# Altium schematic symbol library SCH - ARM CORTEX - NXP LPC154X LQFP48.SCHLIB: 1 symbol
Pins are listed as number, name and electrical type; pins without a type are passive.

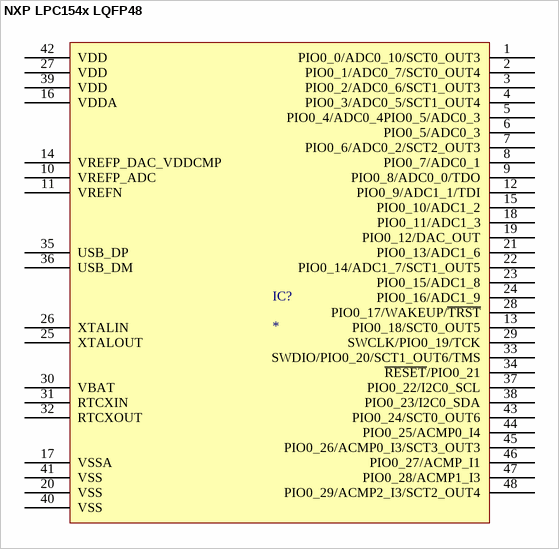
[diagram p0: symbol NXP LPC154x LQFP48]

## NXP LPC154x LQFP48
designator IC?
pins: 1 PIO0_0/ADC0_10/SCT0_OUT3, 2 PIO0_1/ADC0_7/SCT0_OUT4, 3 PIO0_2/ADC0_6/SCT1_OUT3, 4 PIO0_3/ADC0_5/SCT1_OUT4, 5 PIO0_4/ADC0_4PIO0_5/ADC0_3, 6 PIO0_5/ADC0_3, 7 PIO0_6/ADC0_2/SCT2_OUT3, 8 PIO0_7/ADC0_1, 9 PIO0_8/ADC0_0/TDO, 10 VREFP_ADC, 11 VREFN, 12 PIO0_9/ADC1_1/TDI, 13 PIO0_18/SCT0_OUT5, 14 VREFP_DAC_VDDCMP, 15 PIO0_10/ADC1_2, 16 VDDA, 17 VSSA, 18 PIO0_11/ADC1_3, 19 PIO0_12/DAC_OUT, 20 VSS, 21 PIO0_13/ADC1_6, 22 PIO0_14/ADC1_7/SCT1_OUT5, 23 PIO0_15/ADC1_8, 24 PIO0_16/ADC1_9, 25 XTALOUT, 26 XTALIN, 27 VDD, 28 PIO0_17/WAKEUP/~{TRST}, 29 SWCLK/PIO0_19/TCK, 30 VBAT, 31 RTCXIN, 32 RTCXOUT, 33 SWDIO/PIO0_20/SCT1_OUT6/TMS, 34 ~{RESET}/PIO0_21, 35 USB_DP, 36 USB_DM, 37 PIO0_22/I2C0_SCL, 38 PIO0_23/I2C0_SDA, 39 VDD, 40 VSS, 41 VSS, 42 VDD, 43 PIO0_24/SCT0_OUT6, 44 PIO0_25/ACMP0_I4, 45 PIO0_26/ACMP0_I3/SCT3_OUT3, 46 PIO0_27/ACMP_I1, 47 PIO0_28/ACMP1_I3, 48 PIO0_29/ACMP2_I3/SCT2_OUT4